# Altium schematic symbol library LP5900TL-BGA4.SchLib: 1 symbol
Pins are listed as number, name and electrical type; pins without a type are passive.

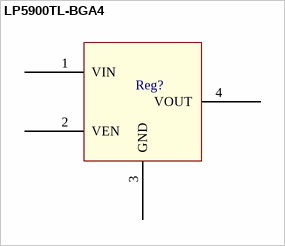
[diagram p0: symbol LP5900TL-BGA4]

## LP5900TL-BGA4
designator Reg?  (value not drawn)
pins: 1 VIN, 2 VEN, 3 GND, 4 VOUT